# EAGLE library part CD4049UB (library DAQTEST)
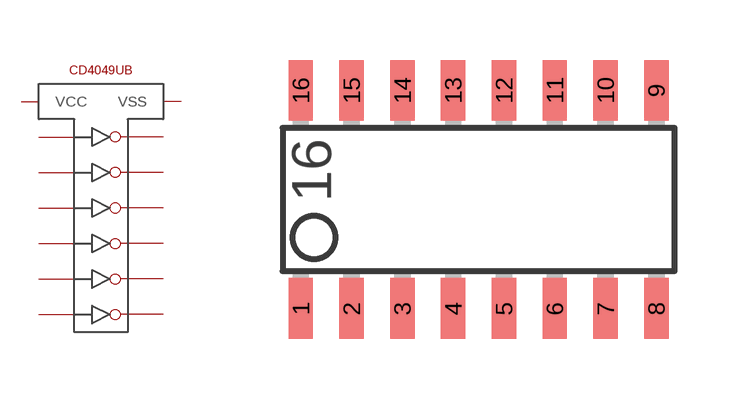
[diagram p7: symbol with the pads of SO-16; footprint SO-16]

Designator prefix -

## CD4049UB  [SO-16]
1  VCC
2  AO
3  AI
4  BO
5  BI
6  CO
7  CI
8  VSS
9  DI
10  DO
11  EI
12  EO
14  FI
15  FO

## Footprint SO-16 (pad centres in mm)
Small Outline Integrated Circuit
smd 0.61 x 1.524: 1 -4.445,-2.794; 2 -3.175,-2.794; 3 -1.905,-2.794; 4 -0.635,-2.794; 5 0.635,-2.794; 6 1.905,-2.794; 7 3.175,-2.794; 8 4.445,-2.794; 9 4.445,2.667; 10 3.175,2.667; 11 1.905,2.667; 12 0.635,2.667; 13 -0.635,2.667; 14 -1.905,2.667; 15 -3.175,2.667; 16 -4.445,2.667